# Altium integrated library TI Microcontroller MSP430 16-bit Ultra-Low Power.IntLib: 1463 symbols (part 59 of 130)
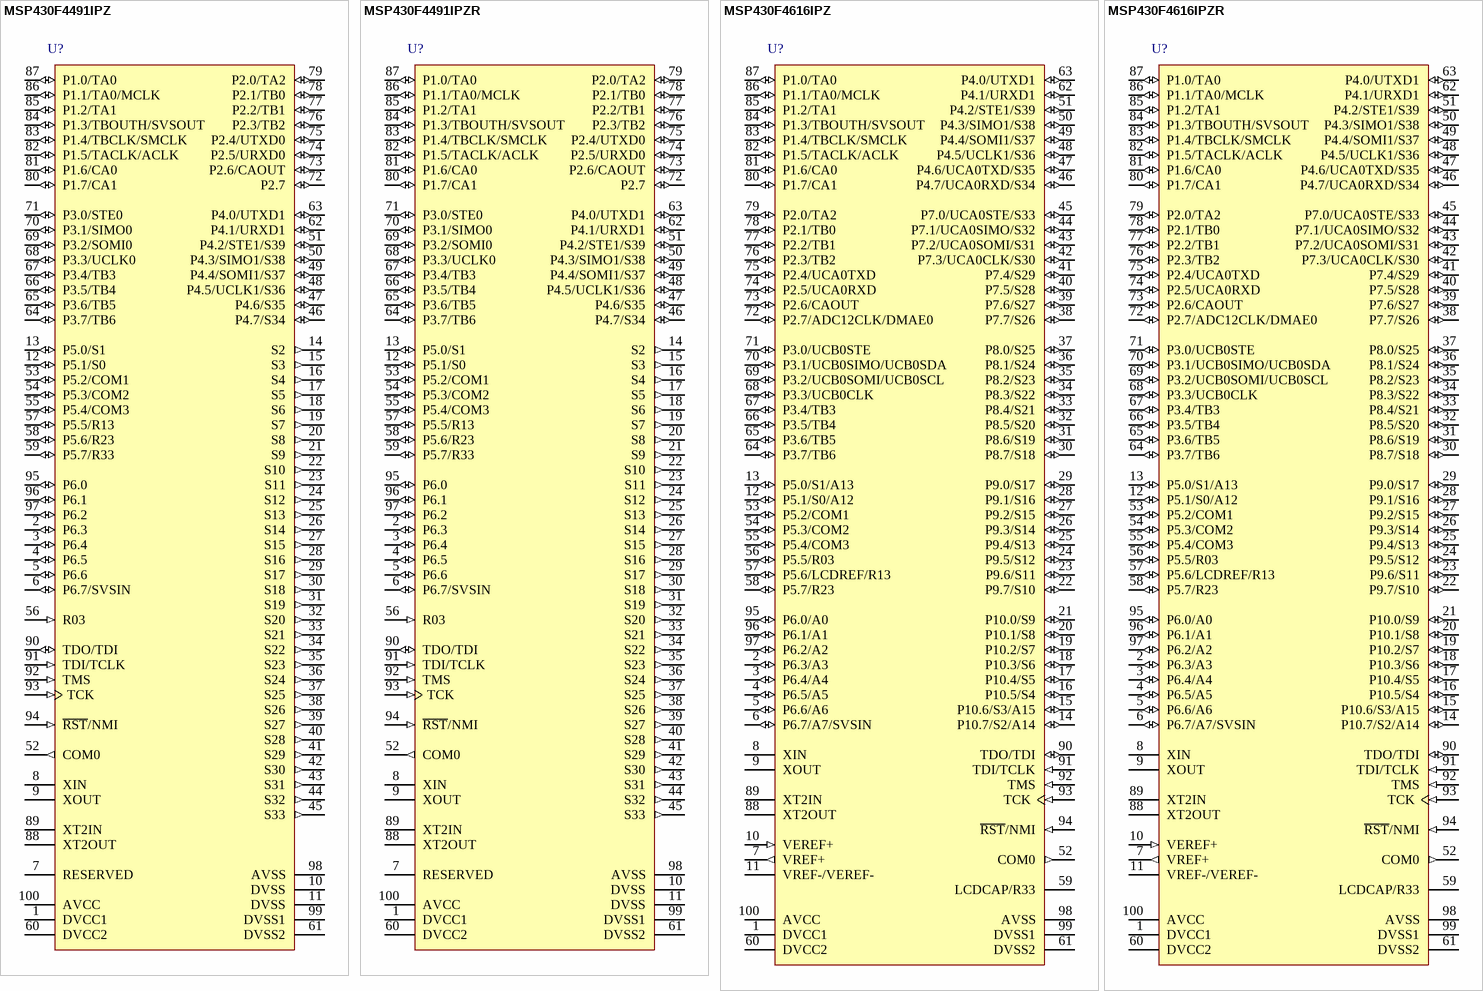
[diagram p265: symbols MSP430F4491IPZ to MSP430F4616IPZR]

## MSP430F4491IPZ
designator U?
8 MHz Mixed Signal Microcontroller with 60 KB Flash, 2048 B SRAM and 48 GPIOs, -40 to 85 degC, 100-pin QFP (PZ), Green (RoHS & no Sb/Br); Manufacturer: Texas Instruments; PartNumber: MSP430F4491IPZ; Brown Out Reset: Yes; Flash(KB): 60; Frequency(MHz): 8; GPIO: 48; LCD Segments: 160; Multiplier: 16x16; SRAM(B): 2048; SubFamily: 4 Series with LCD; Timers - 16-bit: 2; DatasheetVersion: SLAS344G; PackageVersion: 4040149/B; PackageReference: PZ100; PackageDescription: 100-Pin Plastic Flat Pack, Body 14 x 14 mm, Pitch 0.5 mm; Supplier 1: Digi-Key; Supplier Part Number 1: 296-26233-2-ND; Supplier 2: Digi-Key; Supplier Part Number 2: 296-26233-1-ND; Supplier 3: Digi-Key; Supplier Part Number 3: 296-26233-6-ND; Supplier 4: Newark; Supplier Part Number 4: 75C4056; Supplier 5: Mouser; Supplier Part Number 5: 595-430F448IPZR; Comparators: Yes; Eco-Plan: Green (RoHS & no Sb/Br); SVS: Yes; Temp Sensor: Yes; USART: 2; Watchdog: Yes; Mounting Technology: Surface Mount; Code_JEDEC: MS-026; ComponentLink1Description: Manufacturer URL; ComponentLink1URL: http://www.ti.com/; ComponentLink2Description: Datasheet; ComponentLink2URL: http://www.ti.com/general/docs/lit/getliterature.tsp?genericPartNumber=MSP430F4491&fileType=pdf; ComponentLink3Description: Package Specification; ComponentLink3URL: http://www.ti.com/lit/ml/mtqf013a/mtqf013a.pdf
footprint TI-PZ100_N (QFP, 100-Leads, Body 14x14mm, Pitch 0.5mm, IPC Medium Density)
pins: 1 DVCC1 (power) "Digital supply voltage, positive terminal.", 2 P6.3 (io) "General-purpose digital I/O", 3 P6.4 (io) "General-purpose digital I/O", 4 P6.5 (io) "General-purpose digital I/O", 5 P6.6 (io) "General-purpose digital I/O", 6 P6.7/SVSIN (io), 7 RESERVED "Reserved, do not connect externally", 8 XIN "Input port for crystal oscillator XT1. Standard or watch crystals can be connected.", 9 XOUT "Output terminal of crystal oscillator XT1", 10 DVSS (power) "Connect to DVSS", 11 DVSS (power) "Connect to DVSS", 12 P5.1/S0 (io), 13 P5.0/S1 (io), 14 S2 (out) "LCD segment output 2", 15 S3 (out) "LCD segment output 3", 16 S4 (out) "LCD segment output 4", 17 S5 (out) "LCD segment output 5", 18 S6 (out) "LCD segment output 6", 19 S7 (out) "LCD segment output 7", 20 S8 (out) "LCD segment output 8", 21 S9 (out) "LCD segment output 9", 22 S10 (out) "LCD segment output 10", 23 S11 (out) "LCD segment output 11", 24 S12 (out) "LCD segment output 12", 25 S13 (out) "LCD segment output 13", 26 S14 (out) "LCD segment output 14", 27 S15 (out) "LCD segment output 15", 28 S16 (out) "LCD segment output 16", 29 S17 (out) "LCD segment output 17", 30 S18 (out) "LCD segment output 18", 31 S19 (out) "LCD segment output 19", 32 S20 (out) "LCD segment output 20", 33 S21 (out) "LCD segment output 21", 34 S22 (out) "LCD segment output 22", 35 S23 (out) "LCD segment output 23", 36 S24 (out) "LCD segment output 24", 37 S25 (out) "LCD segment output 25", 38 S26 (out) "LCD segment output 26", 39 S27 (out) "LCD segment output 27", 40 S28 (out) "LCD segment output 28", 41 S29 (out) "LCD segment output 29", 42 S30 (out) "LCD segment output 30", 43 S31 (out) "LCD segment output 31", 44 S32 (out) "LCD segment output 32", 45 S33 (out) "LCD segment output 33", 46 P4.7/S34 (io), 47 P4.6/S35 (io), 48 P4.5/UCLK1/S36 (io), 49 P4.4/SOMI1/S37 (io), 50 P4.3/SIMO1/S38 (io), 51 P4.2/STE1/S39 (io), 52 COM0 (out) "COM0-3 are used for LCD backplanes.", 53 P5.2/COM1 (io), 54 P5.3/COM2 (io), 55 P5.4/COM3 (io), 56 R03 (in) "Input port of fourth positive (lowest) analog LCD level (V5)", 57 P5.5/R13 (io), 58 P5.6/R23 (io), 59 P5.7/R33 (io), 60 DVCC2 (power) "Digital supply voltage, positive terminal.", 61 DVSS2 (power) "Digital supply voltage, negative terminal.", 62 P4.1/URXD1 (io), 63 P4.0/UTXD1 (io), 64 P3.7/TB6 (io), 65 P3.6/TB5 (io), 66 P3.5/TB4 (io), 67 P3.4/TB3 (io), 68 P3.3/UCLK0 (io), 69 P3.2/SOMI0 (io), 70 P3.1/SIMO0 (io), 71 P3.0/STE0 (io), 72 P2.7 (io) "General-purpose digital I/O", 73 P2.6/CAOUT (io), 74 P2.5/URXD0 (io), 75 P2.4/UTXD0 (io), 76 P2.3/TB2 (io), 77 P2.2/TB1 (io), 78 P2.1/TB0 (io), 79 P2.0/TA2 (io), 80 P1.7/CA1 (io), 81 P1.6/CA0 (io), 82 P1.5/TACLK/ACLK (io), 83 P1.4/TBCLK/SMCLK (io), 84 P1.3/TBOUTH/SVSOUT (io), 85 P1.2/TA1 (io), 86 P1.1/TA0/MCLK (io), 87 P1.0/TA0 (io), 88 XT2OUT "Output terminal of crystal oscillator XT2", 89 XT2IN "Input port for crystal oscillator XT2. Only standard crystals can be connected.", 90 TDO/TDI (io), 91 TDI/TCLK (in), 92 TMS (in) "Test mode select. TMS is used as an input port for device programming and test.", 93 TCK (in) "Test clock. TCK is the clock input port for device programming and test.", 94 ~{RST}/NMI (in), 95 P6.0 (io) "General-purpose digital I/O", 96 P6.1 (io) "General-purpose digital I/O", 97 P6.2 (io) "General-purpose digital I/O", 98 AVSS (power) "Analog supply voltage, negative terminal. Supplies SVS, brownout, oscillator, comparator_A, port 1, and LCD resistive divider circuitry", 99 DVSS1 (power) "Digital supply voltage, negative terminal.", 100 AVCC (power) "Analog supply voltage, positive terminal. Supplies SVS, brownout, oscillator, comparator_A, port 1, and LCD resistive divider circuitry; must not power up prior to DVCC1/DVCC2."

## MSP430F4491IPZR
designator U?
8 MHz Mixed Signal Microcontroller with 60 KB Flash, 2048 B SRAM and 48 GPIOs, -40 to 85 degC, 100-pin QFP (PZ), Green (RoHS & no Sb/Br); Manufacturer: Texas Instruments; PartNumber: MSP430F4491IPZR; Brown Out Reset: Yes; Flash(KB): 60; Frequency(MHz): 8; GPIO: 48; LCD Segments: 160; Multiplier: 16x16; SRAM(B): 2048; SubFamily: 4 Series with LCD; Timers - 16-bit: 2; DatasheetVersion: SLAS344G; PackageVersion: 4040149/B; PackageReference: PZ100; PackageDescription: 100-Pin Plastic Flat Pack, Body 14 x 14 mm, Pitch 0.5 mm; Supplier 1: Digi-Key; Supplier Part Number 1: 296-32664-ND; Supplier 2: Newark; Supplier Part Number 2: 50R7798; Supplier 3: Mouser; Supplier Part Number 3: 595-MSP430F4491IPZ; Comparators: Yes; Eco-Plan: Green (RoHS & no Sb/Br); SVS: Yes; Temp Sensor: Yes; USART: 2; Watchdog: Yes; Mounting Technology: Surface Mount; Code_JEDEC: MS-026; ComponentLink1Description: Manufacturer URL; ComponentLink1URL: http://www.ti.com/; ComponentLink2Description: Datasheet; ComponentLink2URL: http://www.ti.com/general/docs/lit/getliterature.tsp?genericPartNumber=MSP430F4491&fileType=pdf; ComponentLink3Description: Package Specification; ComponentLink3URL: http://www.ti.com/lit/ml/mtqf013a/mtqf013a.pdf
footprint TI-PZ100_N (QFP, 100-Leads, Body 14x14mm, Pitch 0.5mm, IPC Medium Density)
pins: 1 DVCC1 (power) "Digital supply voltage, positive terminal.", 2 P6.3 (io) "General-purpose digital I/O", 3 P6.4 (io) "General-purpose digital I/O", 4 P6.5 (io) "General-purpose digital I/O", 5 P6.6 (io) "General-purpose digital I/O", 6 P6.7/SVSIN (io), 7 RESERVED "Reserved, do not connect externally", 8 XIN "Input port for crystal oscillator XT1. Standard or watch crystals can be connected.", 9 XOUT "Output terminal of crystal oscillator XT1", 10 DVSS (power) "Connect to DVSS", 11 DVSS (power) "Connect to DVSS", 12 P5.1/S0 (io), 13 P5.0/S1 (io), 14 S2 (out) "LCD segment output 2", 15 S3 (out) "LCD segment output 3", 16 S4 (out) "LCD segment output 4", 17 S5 (out) "LCD segment output 5", 18 S6 (out) "LCD segment output 6", 19 S7 (out) "LCD segment output 7", 20 S8 (out) "LCD segment output 8", 21 S9 (out) "LCD segment output 9", 22 S10 (out) "LCD segment output 10", 23 S11 (out) "LCD segment output 11", 24 S12 (out) "LCD segment output 12", 25 S13 (out) "LCD segment output 13", 26 S14 (out) "LCD segment output 14", 27 S15 (out) "LCD segment output 15", 28 S16 (out) "LCD segment output 16", 29 S17 (out) "LCD segment output 17", 30 S18 (out) "LCD segment output 18", 31 S19 (out) "LCD segment output 19", 32 S20 (out) "LCD segment output 20", 33 S21 (out) "LCD segment output 21", 34 S22 (out) "LCD segment output 22", 35 S23 (out) "LCD segment output 23", 36 S24 (out) "LCD segment output 24", 37 S25 (out) "LCD segment output 25", 38 S26 (out) "LCD segment output 26", 39 S27 (out) "LCD segment output 27", 40 S28 (out) "LCD segment output 28", 41 S29 (out) "LCD segment output 29", 42 S30 (out) "LCD segment output 30", 43 S31 (out) "LCD segment output 31", 44 S32 (out) "LCD segment output 32", 45 S33 (out) "LCD segment output 33", 46 P4.7/S34 (io), 47 P4.6/S35 (io), 48 P4.5/UCLK1/S36 (io), 49 P4.4/SOMI1/S37 (io), 50 P4.3/SIMO1/S38 (io), 51 P4.2/STE1/S39 (io), 52 COM0 (out) "COM0-3 are used for LCD backplanes.", 53 P5.2/COM1 (io), 54 P5.3/COM2 (io), 55 P5.4/COM3 (io), 56 R03 (in) "Input port of fourth positive (lowest) analog LCD level (V5)", 57 P5.5/R13 (io), 58 P5.6/R23 (io), 59 P5.7/R33 (io), 60 DVCC2 (power) "Digital supply voltage, positive terminal.", 61 DVSS2 (power) "Digital supply voltage, negative terminal.", 62 P4.1/URXD1 (io), 63 P4.0/UTXD1 (io), 64 P3.7/TB6 (io), 65 P3.6/TB5 (io), 66 P3.5/TB4 (io), 67 P3.4/TB3 (io), 68 P3.3/UCLK0 (io), 69 P3.2/SOMI0 (io), 70 P3.1/SIMO0 (io), 71 P3.0/STE0 (io), 72 P2.7 (io) "General-purpose digital I/O", 73 P2.6/CAOUT (io), 74 P2.5/URXD0 (io), 75 P2.4/UTXD0 (io), 76 P2.3/TB2 (io), 77 P2.2/TB1 (io), 78 P2.1/TB0 (io), 79 P2.0/TA2 (io), 80 P1.7/CA1 (io), 81 P1.6/CA0 (io), 82 P1.5/TACLK/ACLK (io), 83 P1.4/TBCLK/SMCLK (io), 84 P1.3/TBOUTH/SVSOUT (io), 85 P1.2/TA1 (io), 86 P1.1/TA0/MCLK (io), 87 P1.0/TA0 (io), 88 XT2OUT "Output terminal of crystal oscillator XT2", 89 XT2IN "Input port for crystal oscillator XT2. Only standard crystals can be connected.", 90 TDO/TDI (io), 91 TDI/TCLK (in), 92 TMS (in) "Test mode select. TMS is used as an input port for device programming and test.", 93 TCK (in) "Test clock. TCK is the clock input port for device programming and test.", 94 ~{RST}/NMI (in), 95 P6.0 (io) "General-purpose digital I/O", 96 P6.1 (io) "General-purpose digital I/O", 97 P6.2 (io) "General-purpose digital I/O", 98 AVSS (power) "Analog supply voltage, negative terminal. Supplies SVS, brownout, oscillator, comparator_A, port 1, and LCD resistive divider circuitry", 99 DVSS1 (power) "Digital supply voltage, negative terminal.", 100 AVCC (power) "Analog supply voltage, positive terminal. Supplies SVS, brownout, oscillator, comparator_A, port 1, and LCD resistive divider circuitry; must not power up prior to DVCC1/DVCC2."

## MSP430F4616IPZ
designator U?
8 MHz Mixed Signal Microcontroller with 92 KB Flash, 4096 B SRAM and 48 GPIOs, -40 to 85 degC, 100-pin QFP (PZ), Green (RoHS & no Sb/Br); Manufacturer: Texas Instruments; PartNumber: MSP430F4616IPZ; ADC: 12-bit SAR; Brown Out Reset: Yes; DMA: 3; Flash(KB): 92; Frequency(MHz): 8; GPIO: 80; LCD Segments: 160; Multiplier: 16x16; SRAM(B): 4096; SubFamily: 4 Series with LCD; Timers - 16-bit: 2; USART: 1; DatasheetVersion: SLAS675; PackageVersion: 4040149/B; PackageReference: PZ100; PackageDescription: 100-Pin Plastic Flat Pack, Body 14 x 14 mm, Pitch 0.5 mm; Supplier 1: Digi-Key; Supplier Part Number 1: 296-25765-2-ND; Supplier 2: Digi-Key; Supplier Part Number 2: 296-25765-1-ND; Supplier 3: Digi-Key; Supplier Part Number 3: 296-25765-6-ND; Supplier 4: Mouser; Supplier Part Number 4: 595-MSP430F46161IPZR; Comparators: Yes; Eco-Plan: Green (RoHS & no Sb/Br); SVS: Yes; Temp Sensor: Yes; USCI_A (UART/LIN/IrDA/SPI): 1; USCI_B (I2C & SPI): 1; Watchdog: Yes; Mounting Technology: Surface Mount; Code_JEDEC: MS-026; ComponentLink1Description: Manufacturer URL; ComponentLink1URL: http://www.ti.com/; ComponentLink2Description: Datasheet; ComponentLink2URL: http://www.ti.com/general/docs/lit/getliterature.tsp?genericPartNumber=MSP430F4616&fileType=pdf; ComponentLink3Description: Package Specification; ComponentLink3URL: http://www.ti.com/lit/ml/mtqf013a/mtqf013a.pdf
footprint TI-PZ100_N (QFP, 100-Leads, Body 14x14mm, Pitch 0.5mm, IPC Medium Density)
pins: 1 DVCC1 (power) "Digital supply voltage, positive terminal", 2 P6.3/A3 (io), 3 P6.4/A4 (io), 4 P6.5/A5 (io), 5 P6.6/A6 (io), 6 P6.7/A7/SVSIN (io), 7 VREF+ (out) "Output of positive terminal of the reference voltage in the ADC", 8 XIN "Input port for crystal oscillator XT1. Standard or watch crystals can be connected.", 9 XOUT "Output terminal of crystal oscillator XT1", 10 VEREF+ (in) "Input for an external reference voltage to the ADC", 11 VREF-/VEREF-, 12 P5.1/S0/A12 (io), 13 P5.0/S1/A13 (io), 14 P10.7/S2/A14 (io), 15 P10.6/S3/A15 (io), 16 P10.5/S4 (io), 17 P10.4/S5 (io), 18 P10.3/S6 (io), 19 P10.2/S7 (io), 20 P10.1/S8 (io), 21 P10.0/S9 (io), 22 P9.7/S10 (io), 23 P9.6/S11 (io), 24 P9.5/S12 (io), 25 P9.4/S13 (io), 26 P9.3/S14 (io), 27 P9.2/S15 (io), 28 P9.1/S16 (io), 29 P9.0/S17 (io), 30 P8.7/S18 (io), 31 P8.6/S19 (io), 32 P8.5/S20 (io), 33 P8.4/S21 (io), 34 P8.3/S22 (io), 35 P8.2/S23 (io), 36 P8.1/S24 (io), 37 P8.0/S25 (io), 38 P7.7/S26 (io), 39 P7.6/S27 (io), 40 P7.5/S28 (io), 41 P7.4/S29 (io), 42 P7.3/UCA0CLK/S30 (io), 43 P7.2/UCA0SOMI/S31 (io), 44 P7.1/UCA0SIMO/S32 (io), 45 P7.0/UCA0STE/S33 (io), 46 P4.7/UCA0RXD/S34 (io), 47 P4.6/UCA0TXD/S35 (io), 48 P4.5/UCLK1/S36 (io), 49 P4.4/SOMI1/S37 (io), 50 P4.3/SIMO1/S38 (io), 51 P4.2/STE1/S39 (io), 52 COM0 (out) "COM0-3 are used for LCD backplanes.", 53 P5.2/COM1 (io), 54 P5.3/COM2 (io), 55 P5.4/COM3 (io), 56 P5.5/R03 (io), 57 P5.6/LCDREF/R13 (io), 58 P5.7/R23 (io), 59 LCDCAP/R33, 60 DVCC2 (power) "Digital supply voltage, positive terminal", 61 DVSS2 (power) "Digital supply voltage, negative terminal", 62 P4.1/URXD1 (io), 63 P4.0/UTXD1 (io), 64 P3.7/TB6 (io), 65 P3.6/TB5 (io), 66 P3.5/TB4 (io), 67 P3.4/TB3 (io), 68 P3.3/UCB0CLK (io), 69 P3.2/UCB0SOMI/UCB0SCL (io), 70 P3.1/UCB0SIMO/UCB0SDA (io), 71 P3.0/UCB0STE (io), 72 P2.7/ADC12CLK/DMAE0 (io), 73 P2.6/CAOUT (io), 74 P2.5/UCA0RXD (io), 75 P2.4/UCA0TXD (io), 76 P2.3/TB2 (io), 77 P2.2/TB1 (io), 78 P2.1/TB0 (io), 79 P2.0/TA2 (io), 80 P1.7/CA1 (io), 81 P1.6/CA0 (io), 82 P1.5/TACLK/ACLK (io), 83 P1.4/TBCLK/SMCLK (io), 84 P1.3/TBOUTH/SVSOUT (io), 85 P1.2/TA1 (io), 86 P1.1/TA0/MCLK (io), 87 P1.0/TA0 (io), 88 XT2OUT "Output terminal of crystal oscillator XT2", 89 XT2IN "Input port for crystal oscillator XT2. Only standard crystals can be connected.", 90 TDO/TDI (io), 91 TDI/TCLK (in), 92 TMS (in) "Test mode select. TMS is used as an input port for device programming and test.", 93 TCK (in) "Test clock. TCK is the clock input port for device programming and test.", 94 ~{RST}/NMI (in), 95 P6.0/A0 (io), 96 P6.1/A1 (io), 97 P6.2/A2 (io), 98 AVSS (power) "Analog supply voltage, negative terminal. Supplies SVS, brownout, oscillator, comparator_A, port 1", 99 DVSS1 (power) "Digital supply voltage, negative terminal", 100 AVCC (power) "Analog supply voltage, positive terminal. Supplies SVS, brownout, oscillator, comparator_A, port 1; must not power up prior to DVCC1/DVCC2."

## MSP430F4616IPZR
designator U?
8 MHz Mixed Signal Microcontroller with 92 KB Flash, 4096 B SRAM and 48 GPIOs, -40 to 85 degC, 100-pin QFP (PZ), Green (RoHS & no Sb/Br); Manufacturer: Texas Instruments; PartNumber: MSP430F4616IPZR; ADC: 12-bit SAR; Brown Out Reset: Yes; DMA: 3; Flash(KB): 92; Frequency(MHz): 8; GPIO: 80; LCD Segments: 160; Multiplier: 16x16; SRAM(B): 4096; SubFamily: 4 Series with LCD; Timers - 16-bit: 2; USART: 1; DatasheetVersion: SLAS675; PackageVersion: 4040149/B; PackageReference: PZ100; PackageDescription: 100-Pin Plastic Flat Pack, Body 14 x 14 mm, Pitch 0.5 mm; Supplier 1: Digi-Key; Supplier Part Number 1: MSP430F4616IPZ-ND; Supplier 2: Newark; Supplier Part Number 2: 72R5874; Supplier 3: Mouser; Supplier Part Number 3: 595-MSP430F4616IPZ; Comparators: Yes; Eco-Plan: Green (RoHS & no Sb/Br); SVS: Yes; Temp Sensor: Yes; USCI_A (UART/LIN/IrDA/SPI): 1; USCI_B (I2C & SPI): 1; Watchdog: Yes; Mounting Technology: Surface Mount; Code_JEDEC: MS-026; ComponentLink1Description: Manufacturer URL; ComponentLink1URL: http://www.ti.com/; ComponentLink2Description: Datasheet; ComponentLink2URL: http://www.ti.com/general/docs/lit/getliterature.tsp?genericPartNumber=MSP430F4616&fileType=pdf; ComponentLink3Description: Package Specification; ComponentLink3URL: http://www.ti.com/lit/ml/mtqf013a/mtqf013a.pdf
footprint TI-PZ100_N (QFP, 100-Leads, Body 14x14mm, Pitch 0.5mm, IPC Medium Density)
pins: 1 DVCC1 (power) "Digital supply voltage, positive terminal", 2 P6.3/A3 (io), 3 P6.4/A4 (io), 4 P6.5/A5 (io), 5 P6.6/A6 (io), 6 P6.7/A7/SVSIN (io), 7 VREF+ (out) "Output of positive terminal of the reference voltage in the ADC", 8 XIN "Input port for crystal oscillator XT1. Standard or watch crystals can be connected.", 9 XOUT "Output terminal of crystal oscillator XT1", 10 VEREF+ (in) "Input for an external reference voltage to the ADC", 11 VREF-/VEREF-, 12 P5.1/S0/A12 (io), 13 P5.0/S1/A13 (io), 14 P10.7/S2/A14 (io), 15 P10.6/S3/A15 (io), 16 P10.5/S4 (io), 17 P10.4/S5 (io), 18 P10.3/S6 (io), 19 P10.2/S7 (io), 20 P10.1/S8 (io), 21 P10.0/S9 (io), 22 P9.7/S10 (io), 23 P9.6/S11 (io), 24 P9.5/S12 (io), 25 P9.4/S13 (io), 26 P9.3/S14 (io), 27 P9.2/S15 (io), 28 P9.1/S16 (io), 29 P9.0/S17 (io), 30 P8.7/S18 (io), 31 P8.6/S19 (io), 32 P8.5/S20 (io), 33 P8.4/S21 (io), 34 P8.3/S22 (io), 35 P8.2/S23 (io), 36 P8.1/S24 (io), 37 P8.0/S25 (io), 38 P7.7/S26 (io), 39 P7.6/S27 (io), 40 P7.5/S28 (io), 41 P7.4/S29 (io), 42 P7.3/UCA0CLK/S30 (io), 43 P7.2/UCA0SOMI/S31 (io), 44 P7.1/UCA0SIMO/S32 (io), 45 P7.0/UCA0STE/S33 (io), 46 P4.7/UCA0RXD/S34 (io), 47 P4.6/UCA0TXD/S35 (io), 48 P4.5/UCLK1/S36 (io), 49 P4.4/SOMI1/S37 (io), 50 P4.3/SIMO1/S38 (io), 51 P4.2/STE1/S39 (io), 52 COM0 (out) "COM0-3 are used for LCD backplanes.", 53 P5.2/COM1 (io), 54 P5.3/COM2 (io), 55 P5.4/COM3 (io), 56 P5.5/R03 (io), 57 P5.6/LCDREF/R13 (io), 58 P5.7/R23 (io), 59 LCDCAP/R33, 60 DVCC2 (power) "Digital supply voltage, positive terminal", 61 DVSS2 (power) "Digital supply voltage, negative terminal", 62 P4.1/URXD1 (io), 63 P4.0/UTXD1 (io), 64 P3.7/TB6 (io), 65 P3.6/TB5 (io), 66 P3.5/TB4 (io), 67 P3.4/TB3 (io), 68 P3.3/UCB0CLK (io), 69 P3.2/UCB0SOMI/UCB0SCL (io), 70 P3.1/UCB0SIMO/UCB0SDA (io), 71 P3.0/UCB0STE (io), 72 P2.7/ADC12CLK/DMAE0 (io), 73 P2.6/CAOUT (io), 74 P2.5/UCA0RXD (io), 75 P2.4/UCA0TXD (io), 76 P2.3/TB2 (io), 77 P2.2/TB1 (io), 78 P2.1/TB0 (io), 79 P2.0/TA2 (io), 80 P1.7/CA1 (io), 81 P1.6/CA0 (io), 82 P1.5/TACLK/ACLK (io), 83 P1.4/TBCLK/SMCLK (io), 84 P1.3/TBOUTH/SVSOUT (io), 85 P1.2/TA1 (io), 86 P1.1/TA0/MCLK (io), 87 P1.0/TA0 (io), 88 XT2OUT "Output terminal of crystal oscillator XT2", 89 XT2IN "Input port for crystal oscillator XT2. Only standard crystals can be connected.", 90 TDO/TDI (io), 91 TDI/TCLK (in), 92 TMS (in) "Test mode select. TMS is used as an input port for device programming and test.", 93 TCK (in) "Test clock. TCK is the clock input port for device programming and test.", 94 ~{RST}/NMI (in), 95 P6.0/A0 (io), 96 P6.1/A1 (io), 97 P6.2/A2 (io), 98 AVSS (power) "Analog supply voltage, negative terminal. Supplies SVS, brownout, oscillator, comparator_A, port 1", 99 DVSS1 (power) "Digital supply voltage, negative terminal", 100 AVCC (power) "Analog supply voltage, positive terminal. Supplies SVS, brownout, oscillator, comparator_A, port 1; must not power up prior to DVCC1/DVCC2."

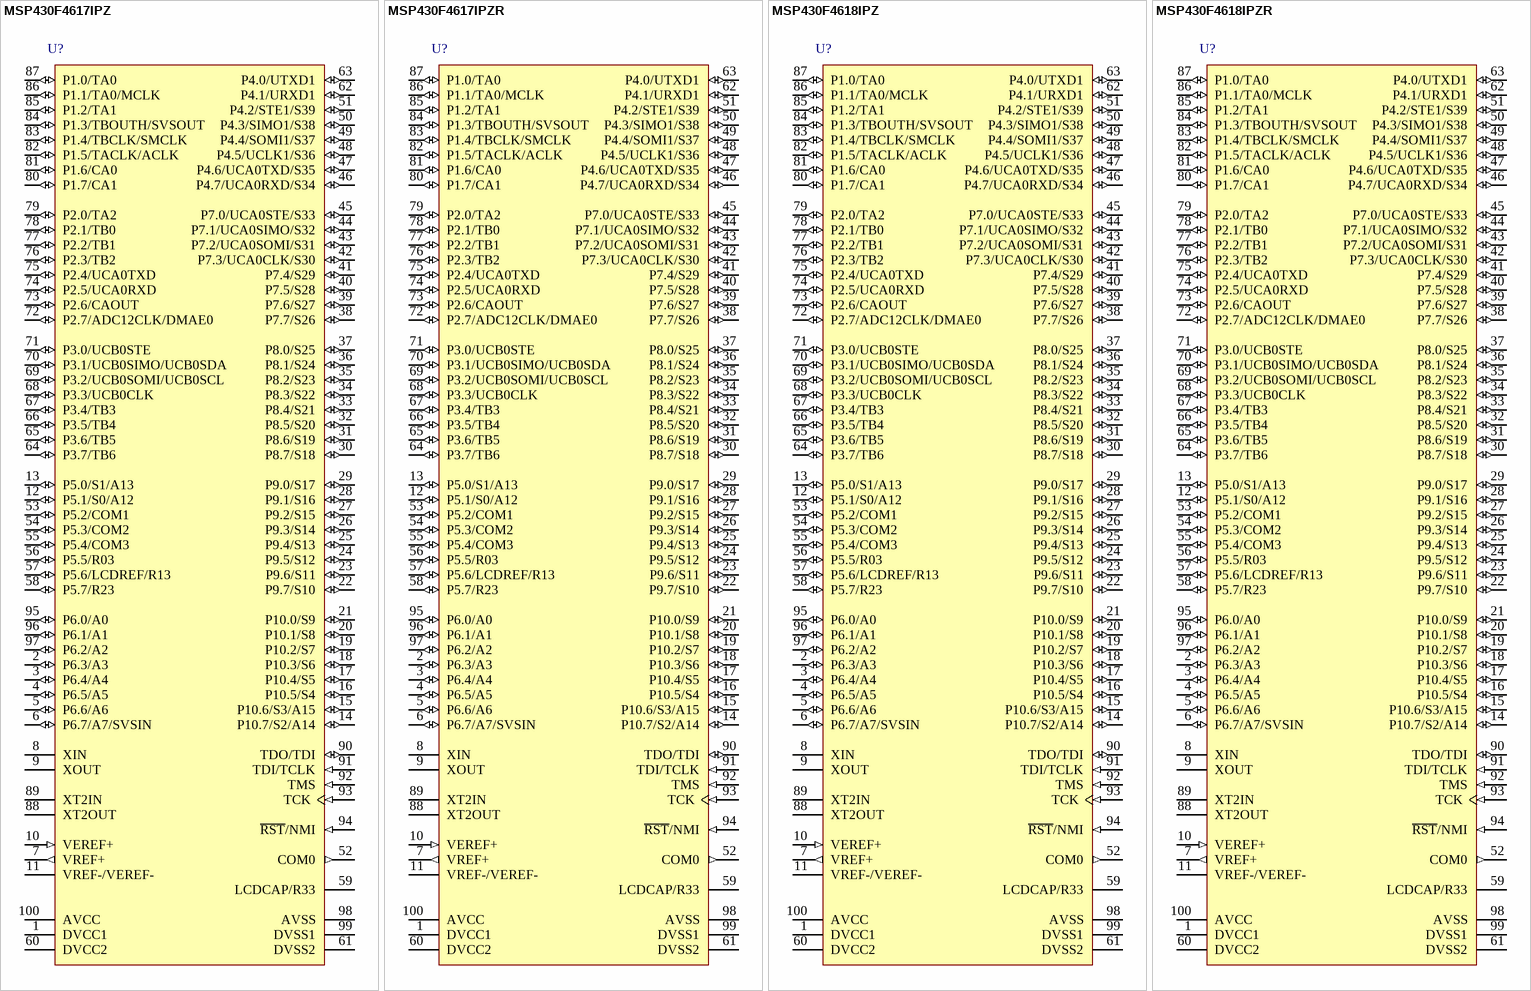
[diagram p85: symbols MSP430F4617IPZ to MSP430F4618IPZR]

## MSP430F4617IPZ
designator U?
8 MHz Mixed Signal Microcontroller with 92 KB Flash, 8192 B SRAM and 48 GPIOs, -40 to 85 degC, 100-pin QFP (PZ), Green (RoHS & no Sb/Br); Manufacturer: Texas Instruments; PartNumber: MSP430F4617IPZ; ADC: 12-bit SAR; Brown Out Reset: Yes; DMA: 3; Flash(KB): 92; Frequency(MHz): 8; GPIO: 80; LCD Segments: 160; Multiplier: 16x16; SRAM(B): 8192; SubFamily: 4 Series with LCD; Timers - 16-bit: 2; USART: 1; DatasheetVersion: SLAS675; PackageVersion: 4040149/B; PackageReference: PZ100; PackageDescription: 100-Pin Plastic Flat Pack, Body 14 x 14 mm, Pitch 0.5 mm; Supplier 1: Digi-Key; Supplier Part Number 1: 296-25767-2-ND; Supplier 2: Digi-Key; Supplier Part Number 2: 296-25767-1-ND; Supplier 3: Digi-Key; Supplier Part Number 3: 296-25767-6-ND; Supplier 4: Newark; Supplier Part Number 4: 50R7803; Supplier 5: Mouser; Supplier Part Number 5: 595-MSP430F46171IPZR; Comparators: Yes; Eco-Plan: Green (RoHS & no Sb/Br); SVS: Yes; Temp Sensor: Yes; USCI_A (UART/LIN/IrDA/SPI): 1; USCI_B (I2C & SPI): 1; Watchdog: Yes; Mounting Technology: Surface Mount; Code_JEDEC: MS-026; ComponentLink1Description: Manufacturer URL; ComponentLink1URL: http://www.ti.com/; ComponentLink2Description: Datasheet; ComponentLink2URL: http://www.ti.com/general/docs/lit/getliterature.tsp?genericPartNumber=MSP430F4617&fileType=pdf; ComponentLink3Description: Package Specification; ComponentLink3URL: http://www.ti.com/lit/ml/mtqf013a/mtqf013a.pdf
footprint TI-PZ100_N (QFP, 100-Leads, Body 14x14mm, Pitch 0.5mm, IPC Medium Density)
pins: 1 DVCC1 (power) "Digital supply voltage, positive terminal", 2 P6.3/A3 (io), 3 P6.4/A4 (io), 4 P6.5/A5 (io), 5 P6.6/A6 (io), 6 P6.7/A7/SVSIN (io), 7 VREF+ (out) "Output of positive terminal of the reference voltage in the ADC", 8 XIN "Input port for crystal oscillator XT1. Standard or watch crystals can be connected.", 9 XOUT "Output terminal of crystal oscillator XT1", 10 VEREF+ (in) "Input for an external reference voltage to the ADC", 11 VREF-/VEREF-, 12 P5.1/S0/A12 (io), 13 P5.0/S1/A13 (io), 14 P10.7/S2/A14 (io), 15 P10.6/S3/A15 (io), 16 P10.5/S4 (io), 17 P10.4/S5 (io), 18 P10.3/S6 (io), 19 P10.2/S7 (io), 20 P10.1/S8 (io), 21 P10.0/S9 (io), 22 P9.7/S10 (io), 23 P9.6/S11 (io), 24 P9.5/S12 (io), 25 P9.4/S13 (io), 26 P9.3/S14 (io), 27 P9.2/S15 (io), 28 P9.1/S16 (io), 29 P9.0/S17 (io), 30 P8.7/S18 (io), 31 P8.6/S19 (io), 32 P8.5/S20 (io), 33 P8.4/S21 (io), 34 P8.3/S22 (io), 35 P8.2/S23 (io), 36 P8.1/S24 (io), 37 P8.0/S25 (io), 38 P7.7/S26 (io), 39 P7.6/S27 (io), 40 P7.5/S28 (io), 41 P7.4/S29 (io), 42 P7.3/UCA0CLK/S30 (io), 43 P7.2/UCA0SOMI/S31 (io), 44 P7.1/UCA0SIMO/S32 (io), 45 P7.0/UCA0STE/S33 (io), 46 P4.7/UCA0RXD/S34 (io), 47 P4.6/UCA0TXD/S35 (io), 48 P4.5/UCLK1/S36 (io), 49 P4.4/SOMI1/S37 (io), 50 P4.3/SIMO1/S38 (io), 51 P4.2/STE1/S39 (io), 52 COM0 (out) "COM0-3 are used for LCD backplanes.", 53 P5.2/COM1 (io), 54 P5.3/COM2 (io), 55 P5.4/COM3 (io), 56 P5.5/R03 (io), 57 P5.6/LCDREF/R13 (io), 58 P5.7/R23 (io), 59 LCDCAP/R33, 60 DVCC2 (power) "Digital supply voltage, positive terminal", 61 DVSS2 (power) "Digital supply voltage, negative terminal", 62 P4.1/URXD1 (io), 63 P4.0/UTXD1 (io), 64 P3.7/TB6 (io), 65 P3.6/TB5 (io), 66 P3.5/TB4 (io), 67 P3.4/TB3 (io), 68 P3.3/UCB0CLK (io), 69 P3.2/UCB0SOMI/UCB0SCL (io), 70 P3.1/UCB0SIMO/UCB0SDA (io), 71 P3.0/UCB0STE (io), 72 P2.7/ADC12CLK/DMAE0 (io), 73 P2.6/CAOUT (io), 74 P2.5/UCA0RXD (io), 75 P2.4/UCA0TXD (io), 76 P2.3/TB2 (io), 77 P2.2/TB1 (io), 78 P2.1/TB0 (io), 79 P2.0/TA2 (io), 80 P1.7/CA1 (io), 81 P1.6/CA0 (io), 82 P1.5/TACLK/ACLK (io), 83 P1.4/TBCLK/SMCLK (io), 84 P1.3/TBOUTH/SVSOUT (io), 85 P1.2/TA1 (io), 86 P1.1/TA0/MCLK (io), 87 P1.0/TA0 (io), 88 XT2OUT "Output terminal of crystal oscillator XT2", 89 XT2IN "Input port for crystal oscillator XT2. Only standard crystals can be connected.", 90 TDO/TDI (io), 91 TDI/TCLK (in), 92 TMS (in) "Test mode select. TMS is used as an input port for device programming and test.", 93 TCK (in) "Test clock. TCK is the clock input port for device programming and test.", 94 ~{RST}/NMI (in), 95 P6.0/A0 (io), 96 P6.1/A1 (io), 97 P6.2/A2 (io), 98 AVSS (power) "Analog supply voltage, negative terminal. Supplies SVS, brownout, oscillator, comparator_A, port 1", 99 DVSS1 (power) "Digital supply voltage, negative terminal", 100 AVCC (power) "Analog supply voltage, positive terminal. Supplies SVS, brownout, oscillator, comparator_A, port 1; must not power up prior to DVCC1/DVCC2."

## MSP430F4617IPZR
designator U?
8 MHz Mixed Signal Microcontroller with 92 KB Flash, 8192 B SRAM and 48 GPIOs, -40 to 85 degC, 100-pin QFP (PZ), Green (RoHS & no Sb/Br); Manufacturer: Texas Instruments; PartNumber: MSP430F4617IPZR; ADC: 12-bit SAR; Brown Out Reset: Yes; DMA: 3; Flash(KB): 92; Frequency(MHz): 8; GPIO: 80; LCD Segments: 160; Multiplier: 16x16; SRAM(B): 8192; SubFamily: 4 Series with LCD; Timers - 16-bit: 2; USART: 1; DatasheetVersion: SLAS675; PackageVersion: 4040149/B; PackageReference: PZ100; PackageDescription: 100-Pin Plastic Flat Pack, Body 14 x 14 mm, Pitch 0.5 mm; Supplier 1: Digi-Key; Supplier Part Number 1: MSP430F4617IPZ-ND; Supplier 2: Newark; Supplier Part Number 2: 72R5876; Supplier 3: Mouser; Supplier Part Number 3: 595-MSP430F4617IPZ; Comparators: Yes; Eco-Plan: Green (RoHS & no Sb/Br); SVS: Yes; Temp Sensor: Yes; USCI_A (UART/LIN/IrDA/SPI): 1; USCI_B (I2C & SPI): 1; Watchdog: Yes; Mounting Technology: Surface Mount; Code_JEDEC: MS-026; ComponentLink1Description: Manufacturer URL; ComponentLink1URL: http://www.ti.com/; ComponentLink2Description: Datasheet; ComponentLink2URL: http://www.ti.com/general/docs/lit/getliterature.tsp?genericPartNumber=MSP430F4617&fileType=pdf; ComponentLink3Description: Package Specification; ComponentLink3URL: http://www.ti.com/lit/ml/mtqf013a/mtqf013a.pdf
footprint TI-PZ100_N (QFP, 100-Leads, Body 14x14mm, Pitch 0.5mm, IPC Medium Density)
pins: 1 DVCC1 (power) "Digital supply voltage, positive terminal", 2 P6.3/A3 (io), 3 P6.4/A4 (io), 4 P6.5/A5 (io), 5 P6.6/A6 (io), 6 P6.7/A7/SVSIN (io), 7 VREF+ (out) "Output of positive terminal of the reference voltage in the ADC", 8 XIN "Input port for crystal oscillator XT1. Standard or watch crystals can be connected.", 9 XOUT "Output terminal of crystal oscillator XT1", 10 VEREF+ (in) "Input for an external reference voltage to the ADC", 11 VREF-/VEREF-, 12 P5.1/S0/A12 (io), 13 P5.0/S1/A13 (io), 14 P10.7/S2/A14 (io), 15 P10.6/S3/A15 (io), 16 P10.5/S4 (io), 17 P10.4/S5 (io), 18 P10.3/S6 (io), 19 P10.2/S7 (io), 20 P10.1/S8 (io), 21 P10.0/S9 (io), 22 P9.7/S10 (io), 23 P9.6/S11 (io), 24 P9.5/S12 (io), 25 P9.4/S13 (io), 26 P9.3/S14 (io), 27 P9.2/S15 (io), 28 P9.1/S16 (io), 29 P9.0/S17 (io), 30 P8.7/S18 (io), 31 P8.6/S19 (io), 32 P8.5/S20 (io), 33 P8.4/S21 (io), 34 P8.3/S22 (io), 35 P8.2/S23 (io), 36 P8.1/S24 (io), 37 P8.0/S25 (io), 38 P7.7/S26 (io), 39 P7.6/S27 (io), 40 P7.5/S28 (io), 41 P7.4/S29 (io), 42 P7.3/UCA0CLK/S30 (io), 43 P7.2/UCA0SOMI/S31 (io), 44 P7.1/UCA0SIMO/S32 (io), 45 P7.0/UCA0STE/S33 (io), 46 P4.7/UCA0RXD/S34 (io), 47 P4.6/UCA0TXD/S35 (io), 48 P4.5/UCLK1/S36 (io), 49 P4.4/SOMI1/S37 (io), 50 P4.3/SIMO1/S38 (io), 51 P4.2/STE1/S39 (io), 52 COM0 (out) "COM0-3 are used for LCD backplanes.", 53 P5.2/COM1 (io), 54 P5.3/COM2 (io), 55 P5.4/COM3 (io), 56 P5.5/R03 (io), 57 P5.6/LCDREF/R13 (io), 58 P5.7/R23 (io), 59 LCDCAP/R33, 60 DVCC2 (power) "Digital supply voltage, positive terminal", 61 DVSS2 (power) "Digital supply voltage, negative terminal", 62 P4.1/URXD1 (io), 63 P4.0/UTXD1 (io), 64 P3.7/TB6 (io), 65 P3.6/TB5 (io), 66 P3.5/TB4 (io), 67 P3.4/TB3 (io), 68 P3.3/UCB0CLK (io), 69 P3.2/UCB0SOMI/UCB0SCL (io), 70 P3.1/UCB0SIMO/UCB0SDA (io), 71 P3.0/UCB0STE (io), 72 P2.7/ADC12CLK/DMAE0 (io), 73 P2.6/CAOUT (io), 74 P2.5/UCA0RXD (io), 75 P2.4/UCA0TXD (io), 76 P2.3/TB2 (io), 77 P2.2/TB1 (io), 78 P2.1/TB0 (io), 79 P2.0/TA2 (io), 80 P1.7/CA1 (io), 81 P1.6/CA0 (io), 82 P1.5/TACLK/ACLK (io), 83 P1.4/TBCLK/SMCLK (io), 84 P1.3/TBOUTH/SVSOUT (io), 85 P1.2/TA1 (io), 86 P1.1/TA0/MCLK (io), 87 P1.0/TA0 (io), 88 XT2OUT "Output terminal of crystal oscillator XT2", 89 XT2IN "Input port for crystal oscillator XT2. Only standard crystals can be connected.", 90 TDO/TDI (io), 91 TDI/TCLK (in), 92 TMS (in) "Test mode select. TMS is used as an input port for device programming and test.", 93 TCK (in) "Test clock. TCK is the clock input port for device programming and test.", 94 ~{RST}/NMI (in), 95 P6.0/A0 (io), 96 P6.1/A1 (io), 97 P6.2/A2 (io), 98 AVSS (power) "Analog supply voltage, negative terminal. Supplies SVS, brownout, oscillator, comparator_A, port 1", 99 DVSS1 (power) "Digital supply voltage, negative terminal", 100 AVCC (power) "Analog supply voltage, positive terminal. Supplies SVS, brownout, oscillator, comparator_A, port 1; must not power up prior to DVCC1/DVCC2."

## MSP430F4618IPZ
designator U?
8 MHz Mixed Signal Microcontroller with 116 KB Flash, 8192 B SRAM and 48 GPIOs, -40 to 85 degC, 100-pin QFP (PZ), Green (RoHS & no Sb/Br); Manufacturer: Texas Instruments; PartNumber: MSP430F4618IPZ; ADC: 12-bit SAR; Brown Out Reset: Yes; DMA: 3; Flash(KB): 116; Frequency(MHz): 8; GPIO: 80; LCD Segments: 160; Multiplier: 16x16; SRAM(B): 8192; SubFamily: 4 Series with LCD; Timers - 16-bit: 2; USART: 1; DatasheetVersion: SLAS675; PackageVersion: 4040149/B; PackageReference: PZ100; PackageDescription: 100-Pin Plastic Flat Pack, Body 14 x 14 mm, Pitch 0.5 mm; Supplier 1: Digi-Key; Supplier Part Number 1: 296-25769-2-ND; Supplier 2: Digi-Key; Supplier Part Number 2: 296-25769-1-ND; Supplier 3: Digi-Key; Supplier Part Number 3: 296-25769-6-ND; Supplier 4: Mouser; Supplier Part Number 4: 595-MSP430F46181IPZR; Comparators: Yes; Eco-Plan: Green (RoHS & no Sb/Br); SVS: Yes; Temp Sensor: Yes; USCI_A (UART/LIN/IrDA/SPI): 1; USCI_B (I2C & SPI): 1; Watchdog: Yes; Mounting Technology: Surface Mount; Code_JEDEC: MS-026; ComponentLink1Description: Manufacturer URL; ComponentLink1URL: http://www.ti.com/; ComponentLink2Description: Datasheet; ComponentLink2URL: http://www.ti.com/general/docs/lit/getliterature.tsp?genericPartNumber=MSP430F4618&fileType=pdf; ComponentLink3Description: Package Specification; ComponentLink3URL: http://www.ti.com/lit/ml/mtqf013a/mtqf013a.pdf
footprint TI-PZ100_N (QFP, 100-Leads, Body 14x14mm, Pitch 0.5mm, IPC Medium Density)
pins: 1 DVCC1 (power) "Digital supply voltage, positive terminal", 2 P6.3/A3 (io), 3 P6.4/A4 (io), 4 P6.5/A5 (io), 5 P6.6/A6 (io), 6 P6.7/A7/SVSIN (io), 7 VREF+ (out) "Output of positive terminal of the reference voltage in the ADC", 8 XIN "Input port for crystal oscillator XT1. Standard or watch crystals can be connected.", 9 XOUT "Output terminal of crystal oscillator XT1", 10 VEREF+ (in) "Input for an external reference voltage to the ADC", 11 VREF-/VEREF-, 12 P5.1/S0/A12 (io), 13 P5.0/S1/A13 (io), 14 P10.7/S2/A14 (io), 15 P10.6/S3/A15 (io), 16 P10.5/S4 (io), 17 P10.4/S5 (io), 18 P10.3/S6 (io), 19 P10.2/S7 (io), 20 P10.1/S8 (io), 21 P10.0/S9 (io), 22 P9.7/S10 (io), 23 P9.6/S11 (io), 24 P9.5/S12 (io), 25 P9.4/S13 (io), 26 P9.3/S14 (io), 27 P9.2/S15 (io), 28 P9.1/S16 (io), 29 P9.0/S17 (io), 30 P8.7/S18 (io), 31 P8.6/S19 (io), 32 P8.5/S20 (io), 33 P8.4/S21 (io), 34 P8.3/S22 (io), 35 P8.2/S23 (io), 36 P8.1/S24 (io), 37 P8.0/S25 (io), 38 P7.7/S26 (io), 39 P7.6/S27 (io), 40 P7.5/S28 (io), 41 P7.4/S29 (io), 42 P7.3/UCA0CLK/S30 (io), 43 P7.2/UCA0SOMI/S31 (io), 44 P7.1/UCA0SIMO/S32 (io), 45 P7.0/UCA0STE/S33 (io), 46 P4.7/UCA0RXD/S34 (io), 47 P4.6/UCA0TXD/S35 (io), 48 P4.5/UCLK1/S36 (io), 49 P4.4/SOMI1/S37 (io), 50 P4.3/SIMO1/S38 (io), 51 P4.2/STE1/S39 (io), 52 COM0 (out) "COM0-3 are used for LCD backplanes.", 53 P5.2/COM1 (io), 54 P5.3/COM2 (io), 55 P5.4/COM3 (io), 56 P5.5/R03 (io), 57 P5.6/LCDREF/R13 (io), 58 P5.7/R23 (io), 59 LCDCAP/R33, 60 DVCC2 (power) "Digital supply voltage, positive terminal", 61 DVSS2 (power) "Digital supply voltage, negative terminal", 62 P4.1/URXD1 (io), 63 P4.0/UTXD1 (io), 64 P3.7/TB6 (io), 65 P3.6/TB5 (io), 66 P3.5/TB4 (io), 67 P3.4/TB3 (io), 68 P3.3/UCB0CLK (io), 69 P3.2/UCB0SOMI/UCB0SCL (io), 70 P3.1/UCB0SIMO/UCB0SDA (io), 71 P3.0/UCB0STE (io), 72 P2.7/ADC12CLK/DMAE0 (io), 73 P2.6/CAOUT (io), 74 P2.5/UCA0RXD (io), 75 P2.4/UCA0TXD (io), 76 P2.3/TB2 (io), 77 P2.2/TB1 (io), 78 P2.1/TB0 (io), 79 P2.0/TA2 (io), 80 P1.7/CA1 (io), 81 P1.6/CA0 (io), 82 P1.5/TACLK/ACLK (io), 83 P1.4/TBCLK/SMCLK (io), 84 P1.3/TBOUTH/SVSOUT (io), 85 P1.2/TA1 (io), 86 P1.1/TA0/MCLK (io), 87 P1.0/TA0 (io), 88 XT2OUT "Output terminal of crystal oscillator XT2", 89 XT2IN "Input port for crystal oscillator XT2. Only standard crystals can be connected.", 90 TDO/TDI (io), 91 TDI/TCLK (in), 92 TMS (in) "Test mode select. TMS is used as an input port for device programming and test.", 93 TCK (in) "Test clock. TCK is the clock input port for device programming and test.", 94 ~{RST}/NMI (in), 95 P6.0/A0 (io), 96 P6.1/A1 (io), 97 P6.2/A2 (io), 98 AVSS (power) "Analog supply voltage, negative terminal. Supplies SVS, brownout, oscillator, comparator_A, port 1", 99 DVSS1 (power) "Digital supply voltage, negative terminal", 100 AVCC (power) "Analog supply voltage, positive terminal. Supplies SVS, brownout, oscillator, comparator_A, port 1; must not power up prior to DVCC1/DVCC2."

## MSP430F4618IPZR
designator U?
8 MHz Mixed Signal Microcontroller with 116 KB Flash, 8192 B SRAM and 48 GPIOs, -40 to 85 degC, 100-pin QFP (PZ), Green (RoHS & no Sb/Br); Manufacturer: Texas Instruments; PartNumber: MSP430F4618IPZR; ADC: 12-bit SAR; Brown Out Reset: Yes; DMA: 3; Flash(KB): 116; Frequency(MHz): 8; GPIO: 80; LCD Segments: 160; Multiplier: 16x16; SRAM(B): 8192; SubFamily: 4 Series with LCD; Timers - 16-bit: 2; USART: 1; DatasheetVersion: SLAS675; PackageVersion: 4040149/B; PackageReference: PZ100; PackageDescription: 100-Pin Plastic Flat Pack, Body 14 x 14 mm, Pitch 0.5 mm; Supplier 1: Digi-Key; Supplier Part Number 1: 296-25481-ND; Supplier 2: Newark; Supplier Part Number 2: 64R0273; Supplier 3: Mouser; Supplier Part Number 3: 595-MSP430F4618IPZ; Comparators: Yes; Eco-Plan: Green (RoHS & no Sb/Br); SVS: Yes; Temp Sensor: Yes; USCI_A (UART/LIN/IrDA/SPI): 1; USCI_B (I2C & SPI): 1; Watchdog: Yes; Mounting Technology: Surface Mount; Code_JEDEC: MS-026; ComponentLink1Description: Manufacturer URL; ComponentLink1URL: http://www.ti.com/; ComponentLink2Description: Datasheet; ComponentLink2URL: http://www.ti.com/general/docs/lit/getliterature.tsp?genericPartNumber=MSP430F4618&fileType=pdf; ComponentLink3Description: Package Specification; ComponentLink3URL: http://www.ti.com/lit/ml/mtqf013a/mtqf013a.pdf
footprint TI-PZ100_N (QFP, 100-Leads, Body 14x14mm, Pitch 0.5mm, IPC Medium Density)
pins: 1 DVCC1 (power) "Digital supply voltage, positive terminal", 2 P6.3/A3 (io), 3 P6.4/A4 (io), 4 P6.5/A5 (io), 5 P6.6/A6 (io), 6 P6.7/A7/SVSIN (io), 7 VREF+ (out) "Output of positive terminal of the reference voltage in the ADC", 8 XIN "Input port for crystal oscillator XT1. Standard or watch crystals can be connected.", 9 XOUT "Output terminal of crystal oscillator XT1", 10 VEREF+ (in) "Input for an external reference voltage to the ADC", 11 VREF-/VEREF-, 12 P5.1/S0/A12 (io), 13 P5.0/S1/A13 (io), 14 P10.7/S2/A14 (io), 15 P10.6/S3/A15 (io), 16 P10.5/S4 (io), 17 P10.4/S5 (io), 18 P10.3/S6 (io), 19 P10.2/S7 (io), 20 P10.1/S8 (io), 21 P10.0/S9 (io), 22 P9.7/S10 (io), 23 P9.6/S11 (io), 24 P9.5/S12 (io), 25 P9.4/S13 (io), 26 P9.3/S14 (io), 27 P9.2/S15 (io), 28 P9.1/S16 (io), 29 P9.0/S17 (io), 30 P8.7/S18 (io), 31 P8.6/S19 (io), 32 P8.5/S20 (io), 33 P8.4/S21 (io), 34 P8.3/S22 (io), 35 P8.2/S23 (io), 36 P8.1/S24 (io), 37 P8.0/S25 (io), 38 P7.7/S26 (io), 39 P7.6/S27 (io), 40 P7.5/S28 (io), 41 P7.4/S29 (io), 42 P7.3/UCA0CLK/S30 (io), 43 P7.2/UCA0SOMI/S31 (io), 44 P7.1/UCA0SIMO/S32 (io), 45 P7.0/UCA0STE/S33 (io), 46 P4.7/UCA0RXD/S34 (io), 47 P4.6/UCA0TXD/S35 (io), 48 P4.5/UCLK1/S36 (io), 49 P4.4/SOMI1/S37 (io), 50 P4.3/SIMO1/S38 (io), 51 P4.2/STE1/S39 (io), 52 COM0 (out) "COM0-3 are used for LCD backplanes.", 53 P5.2/COM1 (io), 54 P5.3/COM2 (io), 55 P5.4/COM3 (io), 56 P5.5/R03 (io), 57 P5.6/LCDREF/R13 (io), 58 P5.7/R23 (io), 59 LCDCAP/R33, 60 DVCC2 (power) "Digital supply voltage, positive terminal", 61 DVSS2 (power) "Digital supply voltage, negative terminal", 62 P4.1/URXD1 (io), 63 P4.0/UTXD1 (io), 64 P3.7/TB6 (io), 65 P3.6/TB5 (io), 66 P3.5/TB4 (io), 67 P3.4/TB3 (io), 68 P3.3/UCB0CLK (io), 69 P3.2/UCB0SOMI/UCB0SCL (io), 70 P3.1/UCB0SIMO/UCB0SDA (io), 71 P3.0/UCB0STE (io), 72 P2.7/ADC12CLK/DMAE0 (io), 73 P2.6/CAOUT (io), 74 P2.5/UCA0RXD (io), 75 P2.4/UCA0TXD (io), 76 P2.3/TB2 (io), 77 P2.2/TB1 (io), 78 P2.1/TB0 (io), 79 P2.0/TA2 (io), 80 P1.7/CA1 (io), 81 P1.6/CA0 (io), 82 P1.5/TACLK/ACLK (io), 83 P1.4/TBCLK/SMCLK (io), 84 P1.3/TBOUTH/SVSOUT (io), 85 P1.2/TA1 (io), 86 P1.1/TA0/MCLK (io), 87 P1.0/TA0 (io), 88 XT2OUT "Output terminal of crystal oscillator XT2", 89 XT2IN "Input port for crystal oscillator XT2. Only standard crystals can be connected.", 90 TDO/TDI (io), 91 TDI/TCLK (in), 92 TMS (in) "Test mode select. TMS is used as an input port for device programming and test.", 93 TCK (in) "Test clock. TCK is the clock input port for device programming and test.", 94 ~{RST}/NMI (in), 95 P6.0/A0 (io), 96 P6.1/A1 (io), 97 P6.2/A2 (io), 98 AVSS (power) "Analog supply voltage, negative terminal. Supplies SVS, brownout, oscillator, comparator_A, port 1", 99 DVSS1 (power) "Digital supply voltage, negative terminal", 100 AVCC (power) "Analog supply voltage, positive terminal. Supplies SVS, brownout, oscillator, comparator_A, port 1; must not power up prior to DVCC1/DVCC2."

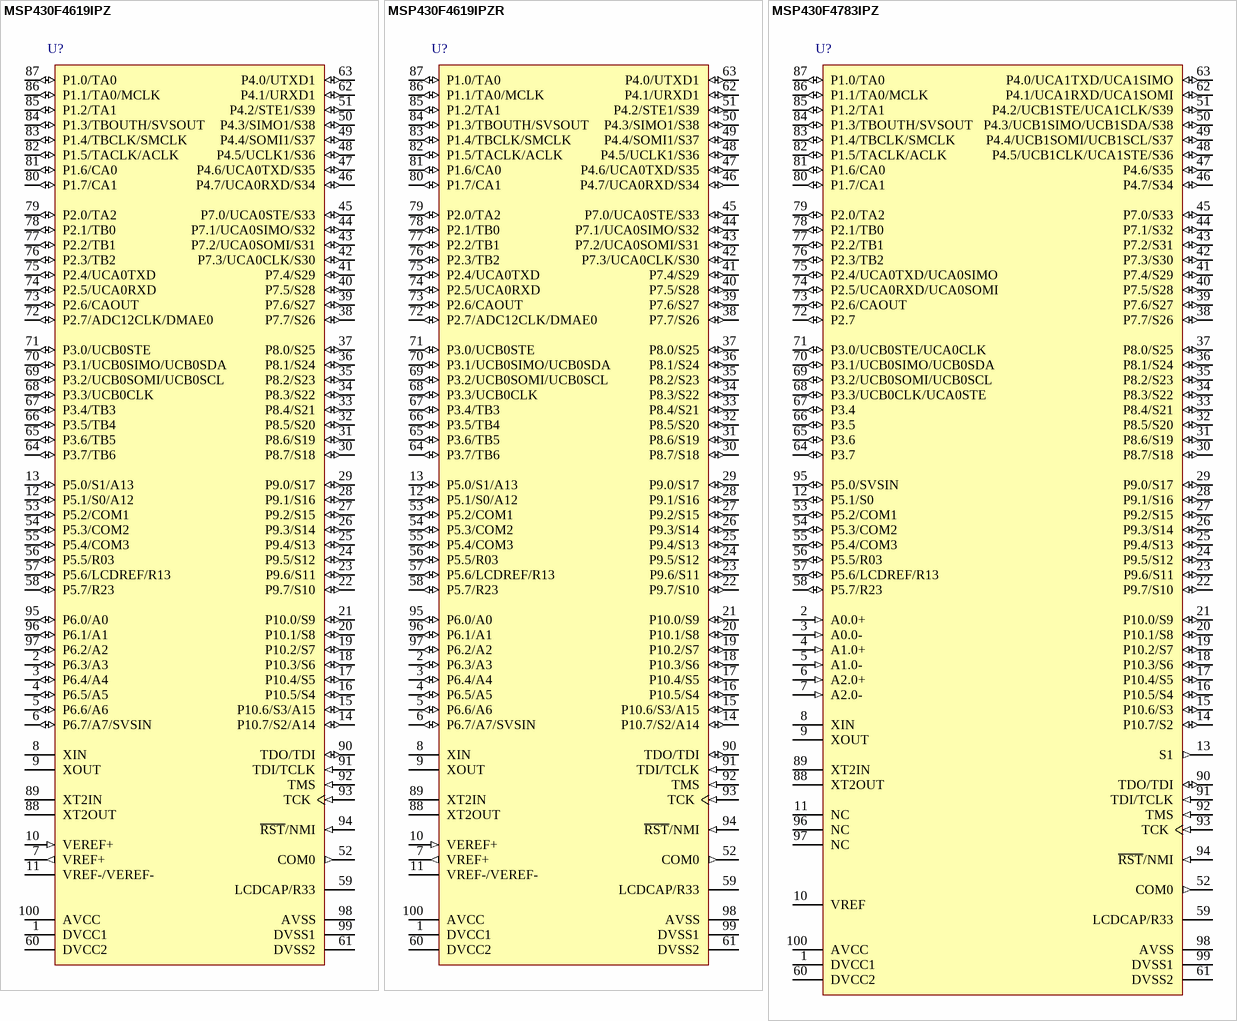
[diagram p86: symbols MSP430F4619IPZ to MSP430F4783IPZ]

## MSP430F4619IPZ
designator U?
8 MHz Mixed Signal Microcontroller with 120 KB Flash, 4096 B SRAM and 48 GPIOs, -40 to 85 degC, 100-pin QFP (PZ), Green (RoHS & no Sb/Br); Manufacturer: Texas Instruments; PartNumber: MSP430F4619IPZ; ADC: 12-bit SAR; Brown Out Reset: Yes; DMA: 3; Flash(KB): 120; Frequency(MHz): 8; GPIO: 80; LCD Segments: 160; Multiplier: 16x16; SRAM(B): 4096; SubFamily: 4 Series with LCD; Timers - 16-bit: 2; USART: 1; DatasheetVersion: SLAS675; PackageVersion: 4040149/B; PackageReference: PZ100; PackageDescription: 100-Pin Plastic Flat Pack, Body 14 x 14 mm, Pitch 0.5 mm; Supplier 1: Digi-Key; Supplier Part Number 1: 296-25770-2-ND; Supplier 2: Digi-Key; Supplier Part Number 2: 296-25770-1-ND; Supplier 3: Digi-Key; Supplier Part Number 3: 296-25770-6-ND; Supplier 4: Mouser; Supplier Part Number 4: 595-MSP430F46191IPZR; Comparators: Yes; Eco-Plan: Green (RoHS & no Sb/Br); SVS: Yes; Temp Sensor: Yes; USCI_A (UART/LIN/IrDA/SPI): 1; USCI_B (I2C & SPI): 1; Watchdog: Yes; Mounting Technology: Surface Mount; Code_JEDEC: MS-026; ComponentLink1Description: Manufacturer URL; ComponentLink1URL: http://www.ti.com/; ComponentLink2Description: Datasheet; ComponentLink2URL: http://www.ti.com/general/docs/lit/getliterature.tsp?genericPartNumber=MSP430F4619&fileType=pdf; ComponentLink3Description: Package Specification; ComponentLink3URL: http://www.ti.com/lit/ml/mtqf013a/mtqf013a.pdf
footprint TI-PZ100_N (QFP, 100-Leads, Body 14x14mm, Pitch 0.5mm, IPC Medium Density)
pins: 1 DVCC1 (power) "Digital supply voltage, positive terminal", 2 P6.3/A3 (io), 3 P6.4/A4 (io), 4 P6.5/A5 (io), 5 P6.6/A6 (io), 6 P6.7/A7/SVSIN (io), 7 VREF+ (out) "Output of positive terminal of the reference voltage in the ADC", 8 XIN "Input port for crystal oscillator XT1. Standard or watch crystals can be connected.", 9 XOUT "Output terminal of crystal oscillator XT1", 10 VEREF+ (in) "Input for an external reference voltage to the ADC", 11 VREF-/VEREF-, 12 P5.1/S0/A12 (io), 13 P5.0/S1/A13 (io), 14 P10.7/S2/A14 (io), 15 P10.6/S3/A15 (io), 16 P10.5/S4 (io), 17 P10.4/S5 (io), 18 P10.3/S6 (io), 19 P10.2/S7 (io), 20 P10.1/S8 (io), 21 P10.0/S9 (io), 22 P9.7/S10 (io), 23 P9.6/S11 (io), 24 P9.5/S12 (io), 25 P9.4/S13 (io), 26 P9.3/S14 (io), 27 P9.2/S15 (io), 28 P9.1/S16 (io), 29 P9.0/S17 (io), 30 P8.7/S18 (io), 31 P8.6/S19 (io), 32 P8.5/S20 (io), 33 P8.4/S21 (io), 34 P8.3/S22 (io), 35 P8.2/S23 (io), 36 P8.1/S24 (io), 37 P8.0/S25 (io), 38 P7.7/S26 (io), 39 P7.6/S27 (io), 40 P7.5/S28 (io), 41 P7.4/S29 (io), 42 P7.3/UCA0CLK/S30 (io), 43 P7.2/UCA0SOMI/S31 (io), 44 P7.1/UCA0SIMO/S32 (io), 45 P7.0/UCA0STE/S33 (io), 46 P4.7/UCA0RXD/S34 (io), 47 P4.6/UCA0TXD/S35 (io), 48 P4.5/UCLK1/S36 (io), 49 P4.4/SOMI1/S37 (io), 50 P4.3/SIMO1/S38 (io), 51 P4.2/STE1/S39 (io), 52 COM0 (out) "COM0-3 are used for LCD backplanes.", 53 P5.2/COM1 (io), 54 P5.3/COM2 (io), 55 P5.4/COM3 (io), 56 P5.5/R03 (io), 57 P5.6/LCDREF/R13 (io), 58 P5.7/R23 (io), 59 LCDCAP/R33, 60 DVCC2 (power) "Digital supply voltage, positive terminal", 61 DVSS2 (power) "Digital supply voltage, negative terminal", 62 P4.1/URXD1 (io), 63 P4.0/UTXD1 (io), 64 P3.7/TB6 (io), 65 P3.6/TB5 (io), 66 P3.5/TB4 (io), 67 P3.4/TB3 (io), 68 P3.3/UCB0CLK (io), 69 P3.2/UCB0SOMI/UCB0SCL (io), 70 P3.1/UCB0SIMO/UCB0SDA (io), 71 P3.0/UCB0STE (io), 72 P2.7/ADC12CLK/DMAE0 (io), 73 P2.6/CAOUT (io), 74 P2.5/UCA0RXD (io), 75 P2.4/UCA0TXD (io), 76 P2.3/TB2 (io), 77 P2.2/TB1 (io), 78 P2.1/TB0 (io), 79 P2.0/TA2 (io), 80 P1.7/CA1 (io), 81 P1.6/CA0 (io), 82 P1.5/TACLK/ACLK (io), 83 P1.4/TBCLK/SMCLK (io), 84 P1.3/TBOUTH/SVSOUT (io), 85 P1.2/TA1 (io), 86 P1.1/TA0/MCLK (io), 87 P1.0/TA0 (io), 88 XT2OUT "Output terminal of crystal oscillator XT2", 89 XT2IN "Input port for crystal oscillator XT2. Only standard crystals can be connected.", 90 TDO/TDI (io), 91 TDI/TCLK (in), 92 TMS (in) "Test mode select. TMS is used as an input port for device programming and test.", 93 TCK (in) "Test clock. TCK is the clock input port for device programming and test.", 94 ~{RST}/NMI (in), 95 P6.0/A0 (io), 96 P6.1/A1 (io), 97 P6.2/A2 (io), 98 AVSS (power) "Analog supply voltage, negative terminal. Supplies SVS, brownout, oscillator, comparator_A, port 1", 99 DVSS1 (power) "Digital supply voltage, negative terminal", 100 AVCC (power) "Analog supply voltage, positive terminal. Supplies SVS, brownout, oscillator, comparator_A, port 1; must not power up prior to DVCC1/DVCC2."

## MSP430F4619IPZR
designator U?
8 MHz Mixed Signal Microcontroller with 120 KB Flash, 4096 B SRAM and 48 GPIOs, -40 to 85 degC, 100-pin QFP (PZ), Green (RoHS & no Sb/Br); Manufacturer: Texas Instruments; PartNumber: MSP430F4619IPZR; ADC: 12-bit SAR; Brown Out Reset: Yes; DMA: 3; Flash(KB): 120; Frequency(MHz): 8; GPIO: 80; LCD Segments: 160; Multiplier: 16x16; SRAM(B): 4096; SubFamily: 4 Series with LCD; Timers - 16-bit: 2; USART: 1; DatasheetVersion: SLAS675; PackageVersion: 4040149/B; PackageReference: PZ100; PackageDescription: 100-Pin Plastic Flat Pack, Body 14 x 14 mm, Pitch 0.5 mm; Supplier 1: Digi-Key; Supplier Part Number 1: 296-33432-5-ND; Supplier 2: Newark; Supplier Part Number 2: 72R5879; Supplier 3: Mouser; Supplier Part Number 3: 595-MSP430F4619IPZ; Comparators: Yes; Eco-Plan: Green (RoHS & no Sb/Br); SVS: Yes; Temp Sensor: Yes; USCI_A (UART/LIN/IrDA/SPI): 1; USCI_B (I2C & SPI): 1; Watchdog: Yes; Mounting Technology: Surface Mount; Code_JEDEC: MS-026; ComponentLink1Description: Manufacturer URL; ComponentLink1URL: http://www.ti.com/; ComponentLink2Description: Datasheet; ComponentLink2URL: http://www.ti.com/general/docs/lit/getliterature.tsp?genericPartNumber=MSP430F4619&fileType=pdf; ComponentLink3Description: Package Specification; ComponentLink3URL: http://www.ti.com/lit/ml/mtqf013a/mtqf013a.pdf
footprint TI-PZ100_N (QFP, 100-Leads, Body 14x14mm, Pitch 0.5mm, IPC Medium Density)
pins: 1 DVCC1 (power) "Digital supply voltage, positive terminal", 2 P6.3/A3 (io), 3 P6.4/A4 (io), 4 P6.5/A5 (io), 5 P6.6/A6 (io), 6 P6.7/A7/SVSIN (io), 7 VREF+ (out) "Output of positive terminal of the reference voltage in the ADC", 8 XIN "Input port for crystal oscillator XT1. Standard or watch crystals can be connected.", 9 XOUT "Output terminal of crystal oscillator XT1", 10 VEREF+ (in) "Input for an external reference voltage to the ADC", 11 VREF-/VEREF-, 12 P5.1/S0/A12 (io), 13 P5.0/S1/A13 (io), 14 P10.7/S2/A14 (io), 15 P10.6/S3/A15 (io), 16 P10.5/S4 (io), 17 P10.4/S5 (io), 18 P10.3/S6 (io), 19 P10.2/S7 (io), 20 P10.1/S8 (io), 21 P10.0/S9 (io), 22 P9.7/S10 (io), 23 P9.6/S11 (io), 24 P9.5/S12 (io), 25 P9.4/S13 (io), 26 P9.3/S14 (io), 27 P9.2/S15 (io), 28 P9.1/S16 (io), 29 P9.0/S17 (io), 30 P8.7/S18 (io), 31 P8.6/S19 (io), 32 P8.5/S20 (io), 33 P8.4/S21 (io), 34 P8.3/S22 (io), 35 P8.2/S23 (io), 36 P8.1/S24 (io), 37 P8.0/S25 (io), 38 P7.7/S26 (io), 39 P7.6/S27 (io), 40 P7.5/S28 (io), 41 P7.4/S29 (io), 42 P7.3/UCA0CLK/S30 (io), 43 P7.2/UCA0SOMI/S31 (io), 44 P7.1/UCA0SIMO/S32 (io), 45 P7.0/UCA0STE/S33 (io), 46 P4.7/UCA0RXD/S34 (io), 47 P4.6/UCA0TXD/S35 (io), 48 P4.5/UCLK1/S36 (io), 49 P4.4/SOMI1/S37 (io), 50 P4.3/SIMO1/S38 (io), 51 P4.2/STE1/S39 (io), 52 COM0 (out) "COM0-3 are used for LCD backplanes.", 53 P5.2/COM1 (io), 54 P5.3/COM2 (io), 55 P5.4/COM3 (io), 56 P5.5/R03 (io), 57 P5.6/LCDREF/R13 (io), 58 P5.7/R23 (io), 59 LCDCAP/R33, 60 DVCC2 (power) "Digital supply voltage, positive terminal", 61 DVSS2 (power) "Digital supply voltage, negative terminal", 62 P4.1/URXD1 (io), 63 P4.0/UTXD1 (io), 64 P3.7/TB6 (io), 65 P3.6/TB5 (io), 66 P3.5/TB4 (io), 67 P3.4/TB3 (io), 68 P3.3/UCB0CLK (io), 69 P3.2/UCB0SOMI/UCB0SCL (io), 70 P3.1/UCB0SIMO/UCB0SDA (io), 71 P3.0/UCB0STE (io), 72 P2.7/ADC12CLK/DMAE0 (io), 73 P2.6/CAOUT (io), 74 P2.5/UCA0RXD (io), 75 P2.4/UCA0TXD (io), 76 P2.3/TB2 (io), 77 P2.2/TB1 (io), 78 P2.1/TB0 (io), 79 P2.0/TA2 (io), 80 P1.7/CA1 (io), 81 P1.6/CA0 (io), 82 P1.5/TACLK/ACLK (io), 83 P1.4/TBCLK/SMCLK (io), 84 P1.3/TBOUTH/SVSOUT (io), 85 P1.2/TA1 (io), 86 P1.1/TA0/MCLK (io), 87 P1.0/TA0 (io), 88 XT2OUT "Output terminal of crystal oscillator XT2", 89 XT2IN "Input port for crystal oscillator XT2. Only standard crystals can be connected.", 90 TDO/TDI (io), 91 TDI/TCLK (in), 92 TMS (in) "Test mode select. TMS is used as an input port for device programming and test.", 93 TCK (in) "Test clock. TCK is the clock input port for device programming and test.", 94 ~{RST}/NMI (in), 95 P6.0/A0 (io), 96 P6.1/A1 (io), 97 P6.2/A2 (io), 98 AVSS (power) "Analog supply voltage, negative terminal. Supplies SVS, brownout, oscillator, comparator_A, port 1", 99 DVSS1 (power) "Digital supply voltage, negative terminal", 100 AVCC (power) "Analog supply voltage, positive terminal. Supplies SVS, brownout, oscillator, comparator_A, port 1; must not power up prior to DVCC1/DVCC2."